# Altium schematic symbol library 1645RT2U.SchLib: 1 symbol
Pins are listed as number, name and electrical type; pins without a type are passive.

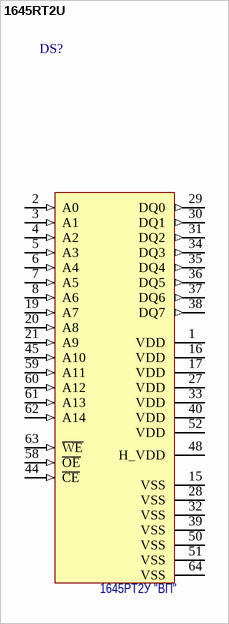
[diagram p0: symbol 1645RT2U]

## 1645RT2U
designator DS?, comment Наименование: 1645РТ2У "ВП"  (hidden comment: 1645RT2U VP)
Микросхема однократно программируемого постоянного / запоминающего устройства ёмкостью 256 К с организацией 32Кх8 / 1645РТ2У; Назначение: ОППЗУ; Потребление, Вт: 0.330; ComponentLink1Description: DataSheet; ComponentLink1URL: https://forum.milandr.ru/download/file.php?id=473
footprint 5134.64-6
pins: 1 VDD (power), 2 A0 (in), 3 A1 (in), 4 A2 (in), 5 A3 (in), 6 A4 (in), 7 A5 (in), 8 A6 (in), 15 VSS (power), 16 VDD (power), 17 VDD (power), 19 A7 (in), 20 A8 (in), 21 A9 (in), 27 VDD (power), 28 VSS (power), 29 DQ0 (out), 30 DQ1 (out), 31 DQ2 (out), 32 VSS (power), 33 VDD (power), 34 DQ3 (out), 35 DQ4 (out), 36 DQ5 (out), 37 DQ6 (out), 38 DQ7 (out), 39 VSS (power), 40 VDD (power), 44 ~{CE} (in), 45 A10 (in), 48 H_VDD (power), 50 VSS (power), 51 VSS (power), 52 VDD (power), 58 ~{OE} (in), 59 A11 (in), 60 A12 (in), 61 A13 (in), 62 A14 (in), 63 ~{WE} (in), 64 VSS (power)